# EAGLE library part 30 (library display-lcd-lxd)
3 Numerical Digit, .35" (8.89) Direct Drive Display Additional Descriptors: none
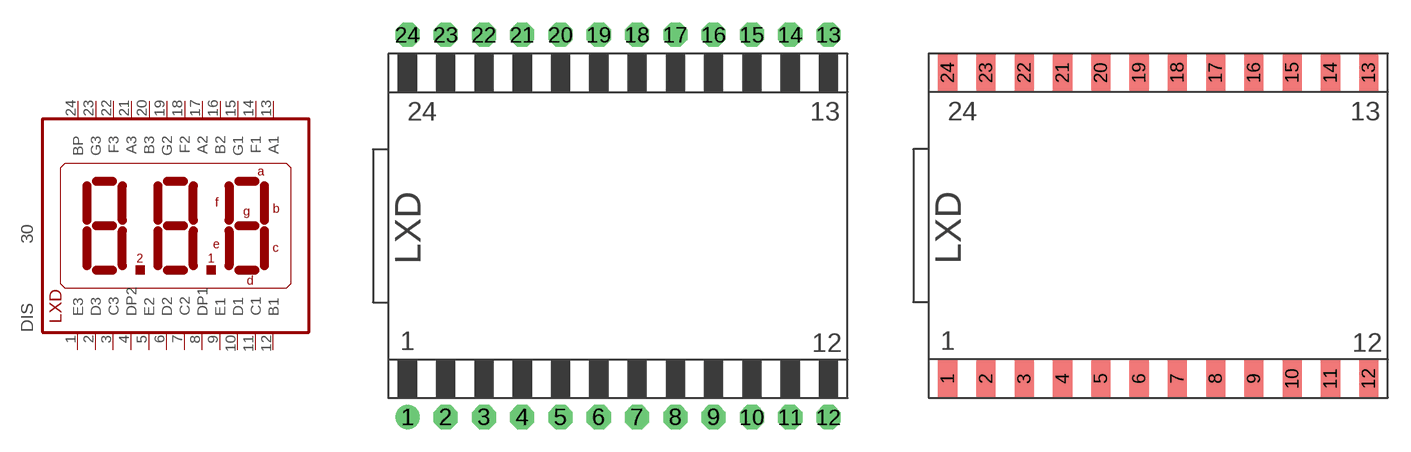
[diagram p7: symbol with the pads of 30-D; footprints 30-D, 30-E]

Designator prefix DIS

## 30DIP  [30-D]
1  E3  pas
2  D3  pas
3  C3  pas
4  DP2  pas
5  E2  pas
6  D2  pas
7  C2  pas
8  DP1  pas
9  E1  pas
10  D1  pas
11  C1  pas
12  B1  pas
13  A1  pas
14  F1  pas
15  G1  pas
16  B2  pas
17  A2  pas
18  F2  pas
19  G2  pas
20  B3  pas
21  A3  pas
22  F3  pas
23  G3  pas
24  BP  pas

## 30SMD  [30-E]
Pads as for 30-D

## Footprint 30-D (pad centres in mm)
Glass Size: 1.20" x 0.90" &nbsp &nbsp &nbsp &nbsp &nbsp &nbsp &nbsp &nbsp &nbsp (30.48 x 22.86)
drill 0.813 pad 1.6 round: 1 -13.97,-12.7
drill 0.813 pad 1.6 octagon: 2 -11.43,-12.7; 3 -8.89,-12.7; 4 -6.35,-12.7; 5 -3.81,-12.7; 6 -1.27,-12.7; 7 1.27,-12.7; 8 3.81,-12.7; 9 6.35,-12.7; 10 8.89,-12.7; 11 11.43,-12.7; 12 13.97,-12.7; 13 13.97,12.7; 14 11.43,12.7; 15 8.89,12.7; 16 6.35,12.7; 17 3.81,12.7; 18 1.27,12.7; 19 -1.27,12.7; 20 -3.81,12.7; 21 -6.35,12.7; 22 -8.89,12.7; 23 -11.43,12.7; 24 -13.97,12.7

## Footprint 30-E (pad centres in mm)
Glass Size: 1.20" x 0.90" &nbsp &nbsp &nbsp &nbsp &nbsp &nbsp &nbsp &nbsp &nbsp (30.48 x 22.86)
smd 1.27 x 2.54: 1 -13.97,-10.16; 2 -11.43,-10.16; 3 -8.89,-10.16; 4 -6.35,-10.16; 5 -3.81,-10.16; 6 -1.27,-10.16; 7 1.27,-10.16; 8 3.81,-10.16; 9 6.35,-10.16; 10 8.89,-10.16; 11 11.43,-10.16; 12 13.97,-10.16; 13 13.97,10.16; 14 11.43,10.16; 15 8.89,10.16; 16 6.35,10.16; 17 3.81,10.16; 18 1.27,10.16; 19 -1.27,10.16; 20 -3.81,10.16; 21 -6.35,10.16; 22 -8.89,10.16; 23 -11.43,10.16; 24 -13.97,10.16